# Altium footprint library NCP18WF104J03RB.PcbLib: 2 footprints
Each footprint in its own frame and in the unit in brackets; x right, y up, seen from the top. Pads: shape width x height; smd on the part's side, far side on the other; paste and mask are expansions set on the pad; w line width, h text height; cw(c..) or ccw(c..) is an arc to the next point about the centre after c.
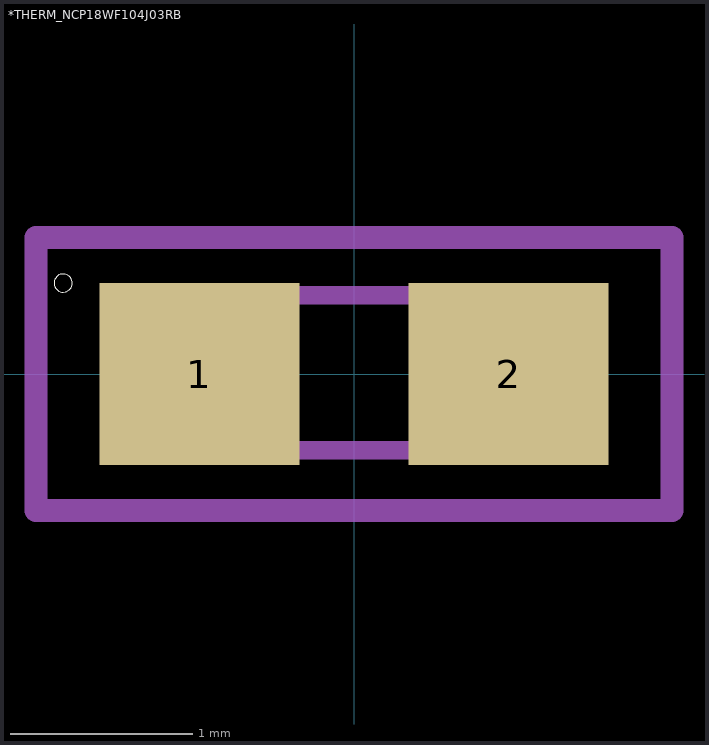
[diagram p0: the footprints below, top view; thin cyan lines are the x and y axes]

## *THERM_NCP18WF104J03RB [mm]
pads (2):
  rect 1.1x1 smd: 1(-0.85,0) 2(0.85,0)
Top Overlay:
  circle w0: c-1.6,0.5 r0.05
Mechanical 4:
  region: 0.331,0.48 0.83,0.48 0.83,-0.47 0.331,-0.47
  region: -0.838,0.48 -0.338,0.48 -0.338,-0.47 -0.838,-0.47
  region: 0.331,0.48 0.83,0.48 0.83,-0.47 0.331,-0.47
  region: -0.838,0.48 -0.338,0.48 -0.338,-0.47 -0.838,-0.47
  lines w0.102: -0.356,-0.419 0.356,-0.419 -0.356,-0.419 ; -0.356,0.432 0.356,0.432 -0.356,0.432
Mechanical 16:
  lines w0.127: -1.75,-0.75 1.75,-0.75 1.75,0.75 -1.75,0.75 -1.75,-0.75

## PCBComponent_1 [mm]